# EAGLE library part FT232BL (library dl9sec_public)
USB UART Single Chip USB - Asynchronous Serial Data Transfer VCC 4,35V..5,25V, max. 3MBaud UHCI/OHCI/UHCI-compatible Compatible with USB1.1 and USB2.0
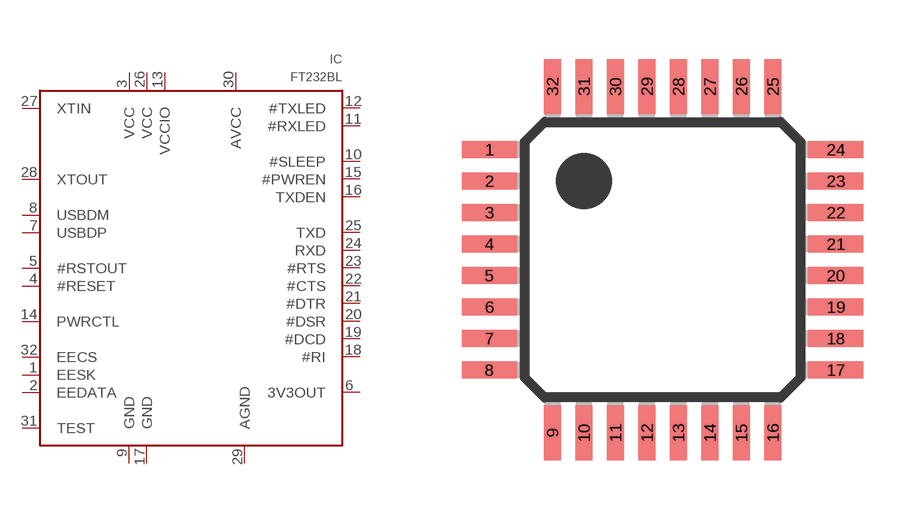
[diagram p7: symbol with the pads of LQFP32; footprint LQFP32]

Designator prefix IC

## FT232BL  [LQFP32]
1  EESK  out
2  EEDATA  out
3  VCC  pwr
4  #RESET  in
5  #RSTOUT  out
6  3V3OUT  pas
7  USBDP
8  USBDM
9  GND  pwr
10  #SLEEP  out
11  #RXLED  oc
12  #TXLED  oc
13  VCCIO  pwr
14  PWRCTL  in
15  #PWREN  out
16  TXDEN  out
17  GND  pwr
18  #RI  in
19  #DCD  in
20  #DSR  in
21  #DTR  out
22  #CTS  in
23  #RTS  out
24  RXD  in
25  TXD  out
26  VCC  pwr
27  XTIN  pas
28  XTOUT  pas
29  AGND  pwr
30  AVCC  pwr
31  TEST  in
32  EECS  out

## Footprint LQFP32 (pad centres in mm)
LQFP32
smd 1.4 x 0.44: 1 -4.4,2.8; 2 -4.4,2; 3 -4.4,1.2; 4 -4.4,0.4; 5 -4.4,-0.4; 6 -4.4,-1.2; 7 -4.4,-2; 8 -4.4,-2.8; 17 4.4,-2.8; 18 4.4,-2; 19 4.4,-1.2; 20 4.4,-0.4; 21 4.4,0.4; 22 4.4,1.2; 23 4.4,2; 24 4.4,2.8
smd 0.44 x 1.4: 9 -2.8,-4.4; 10 -2,-4.4; 11 -1.2,-4.4; 12 -0.4,-4.4; 13 0.4,-4.4; 14 1.2,-4.4; 15 2,-4.4; 16 2.8,-4.4; 25 2.8,4.4; 26 2,4.4; 27 1.2,4.4; 28 0.4,4.4; 29 -0.4,4.4; 30 -1.2,4.4; 31 -2,4.4; 32 -2.8,4.4